# Altium footprint library MR26.PCBLIB: 50 footprints (part 3 of 4)
Each footprint in its own frame and in the unit in brackets; x right, y up, seen from the top. Pads: shape width x height; smd on the part's side, far side on the other; paste and mask are expansions set on the pad; w line width, h text height; cw(c..) or ccw(c..) is an arc to the next point about the centre after c.
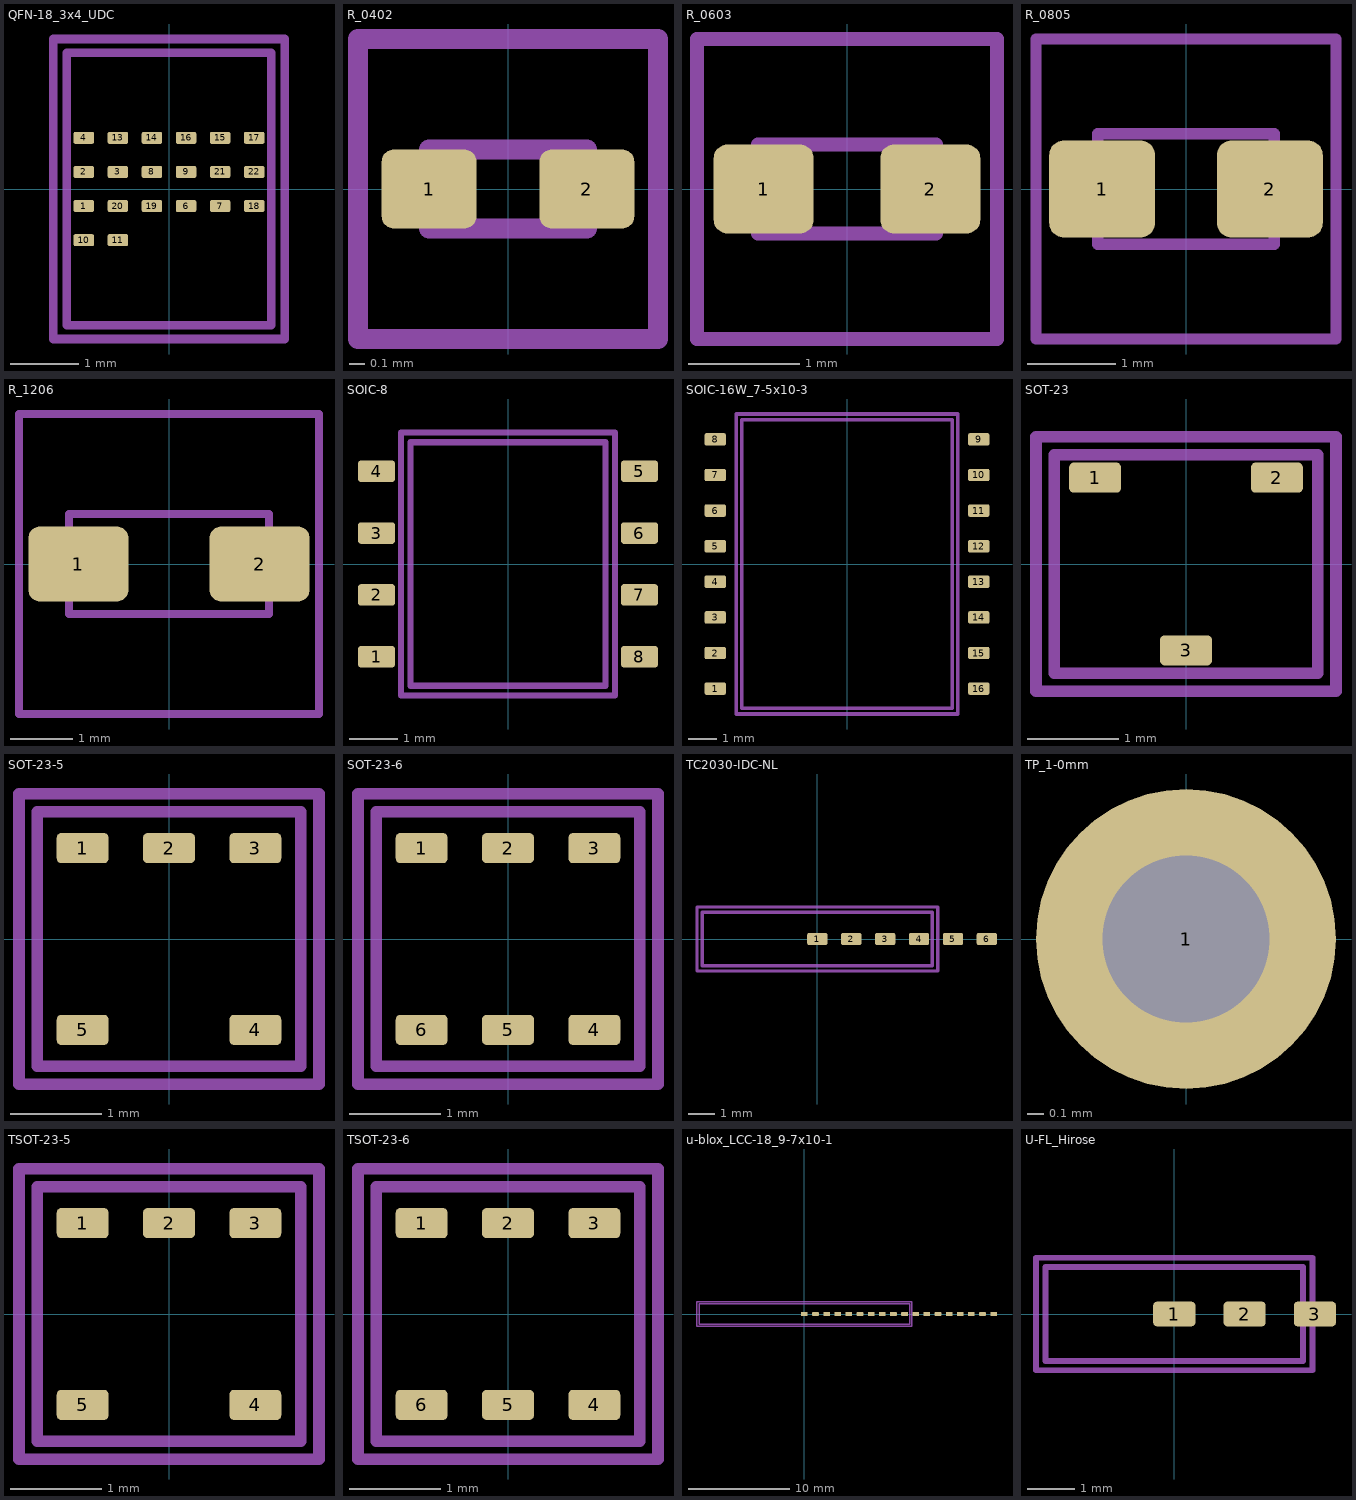
[diagram p2: the footprints below, top view; thin cyan lines are the x and y axes]

## QFN-18_3x4_UDC [mm]
pads (20):
  rrect30% 0.3x0.175 smd: 1(-1.25,-0.25) 2(-1.25,0.25) 3(-0.75,0.25) 4(-1.25,0.75) 6(0.25,-0.25) 7(0.75,-0.25) 8(-0.25,0.25) 9(0.25,0.25) 10(-1.25,-0.75) 11(-0.75,-0.75) 13(-0.75,0.75) 14(-0.25,0.75) 15(0.75,0.75) 16(0.25,0.75) 17(1.25,0.75) 18(1.25,-0.25) 19(-0.25,-0.25) 20(-0.75,-0.25) 21(0.75,0.25) 22(1.25,0.25)
tDocu:
  lines w0.127: -1.7,-2.2 1.7,-2.2 1.7,2.2 -1.7,2.2 -1.7,-2.2 ; -1.5,-2 1.5,-2 1.5,2 -1.5,2 -1.5,-2

## R_0402 [mm]
pads (2):
  rrect30% 0.6x0.5 smd: 1(-0.5,0) 2(0.5,0)
tDocu:
  lines w0.127: -0.95,-0.95 0.95,-0.95 0.95,0.95 -0.95,0.95 -0.95,-0.95 ; -0.5,-0.25 0.5,-0.25 0.5,0.25 -0.5,0.25 -0.5,-0.25

## R_0603 [mil]
pads (2):
  rrect30% 35.43x31.5 smd: 1(-29.53,0) 2(29.53,0)
tDocu:
  lines w5: -53.15,-53.15 53.15,-53.15 53.15,53.15 -53.15,53.15 -53.15,-53.15 ; -31.5,-15.75 31.5,-15.75 31.5,15.75 -31.5,15.75 -31.5,-15.75

## R_0805 [mm]
pads (2):
  rrect30% 1.2x1.1 smd: 1(-0.95,0) 2(0.95,0)
tDocu:
  lines w0.127: -1.7,-1.7 1.7,-1.7 1.7,1.7 -1.7,1.7 -1.7,-1.7 ; -1,-0.625 1,-0.625 1,0.625 -1,0.625 -1,-0.625

## R_1206 [mm]
pads (2):
  rrect30% 1.6x1.2 smd: 1(-1.45,0) 2(1.45,0)
tDocu:
  lines w0.127: -2.4,-2.4 2.4,-2.4 2.4,2.4 -2.4,2.4 -2.4,-2.4 ; -1.6,-0.8 1.6,-0.8 1.6,0.8 -1.6,0.8 -1.6,-0.8

## SOIC-8 [mil]
pads (8):
  rrect30% 30x17.48 smd: 1(-106.3,-75) 2(-106.3,-25) 3(-106.3,25) 4(-106.3,75) 5(106.3,75) 6(106.3,25) 7(106.3,-25) 8(106.3,-75)
tDocu:
  lines w5: -86.61,-106.3 86.61,-106.3 86.61,106.3 -86.61,106.3 -86.61,-106.3 ; -78.74,-98.43 78.74,-98.43 78.74,98.43 -78.74,98.43 -78.74,-98.43

## SOIC-16W_7-5x10-3 [mm]
pads (16):
  rrect30% 0.762x0.444 smd: 1(-4.7,-4.445) 2(-4.7,-3.175) 3(-4.7,-1.905) 4(-4.7,-0.635) 5(-4.7,0.635) 6(-4.7,1.905) 7(-4.7,3.175) 8(-4.7,4.445) 9(4.7,4.445) 10(4.7,3.175) 11(4.7,1.905) 12(4.7,0.635) 13(4.7,-0.635) 14(4.7,-1.905) 15(4.7,-3.175) 16(4.7,-4.445)
tDocu:
  lines w0.127: -3.95,-5.35 3.95,-5.35 3.95,5.35 -3.95,5.35 -3.95,-5.35 ; -3.75,-5.15 3.75,-5.15 3.75,5.15 -3.75,5.15 -3.75,-5.15

## SOT-23 [mm]
pads (3):
  rrect30% 0.57x0.332 smd: 1(-1,0.95) 2(1,0.95) 3(0,-0.95)
tDocu:
  lines w0.127: -1.65,-1.4 1.65,-1.4 1.65,1.4 -1.65,1.4 -1.65,-1.4 ; -1.45,-1.2 1.45,-1.2 1.45,1.2 -1.45,1.2 -1.45,-1.2

## SOT-23-5 [mm]
pads (5):
  rrect30% 0.57x0.332 smd: 1(-0.95,1) 2(0,1) 3(0.95,1) 4(0.95,-1) 5(-0.95,-1)
tDocu:
  lines w0.127: -1.65,-1.6 1.65,-1.6 1.65,1.6 -1.65,1.6 -1.65,-1.6 ; -1.45,-1.4 1.45,-1.4 1.45,1.4 -1.45,1.4 -1.45,-1.4

## SOT-23-6 [mm]
pads (6):
  rrect30% 0.57x0.332 smd: 1(-0.95,1) 2(0,1) 3(0.95,1) 4(0.95,-1) 5(0,-1) 6(-0.95,-1)
tDocu:
  lines w0.127: -1.65,-1.6 1.65,-1.6 1.65,1.6 -1.65,1.6 -1.65,-1.6 ; -1.45,-1.4 1.45,-1.4 1.45,1.4 -1.45,1.4 -1.45,-1.4

## TC2030-IDC-NL [mil]
pads (6):
  rrect30% 30x17.48 smd: 1(0,0) 2(50,0) 3(100,0) 4(150,0) 5(200,0) 6(250,0)
tDocu:
  lines w5: -177.56,-47.24 177.56,-47.24 177.56,47.24 -177.56,47.24 -177.56,-47.24 ; -169.69,-39.37 169.69,-39.37 169.69,39.37 -169.69,39.37 -169.69,-39.37

## TP_1-0mm [mm]
pads (1):
  round 1.8 hole 1: 1(0,0)

## TSOT-23-5 [mm]
pads (5):
  rrect30% 0.57x0.332 smd: 1(-0.95,1) 2(0,1) 3(0.95,1) 4(0.95,-1) 5(-0.95,-1)
tDocu:
  lines w0.127: -1.65,-1.6 1.65,-1.6 1.65,1.6 -1.65,1.6 -1.65,-1.6 ; -1.45,-1.4 1.45,-1.4 1.45,1.4 -1.45,1.4 -1.45,-1.4

## TSOT-23-6 [mm]
pads (6):
  rrect30% 0.57x0.332 smd: 1(-0.95,1) 2(0,1) 3(0.95,1) 4(0.95,-1) 5(0,-1) 6(-0.95,-1)
tDocu:
  lines w0.127: -1.65,-1.6 1.65,-1.6 1.65,1.6 -1.65,1.6 -1.65,-1.6 ; -1.45,-1.4 1.45,-1.4 1.45,1.4 -1.45,1.4 -1.45,-1.4

## u-blox_LCC-18_9-7x10-1 [mm]
pads (18):
  rrect30% 0.66x0.385 smd: 1(16.5,0) 2(5.5,0) 3(4.4,0) 4(6.6,0) 5(7.7,0) 6(2.2,0) 7(1.1,0) 8(0,0) 9(8.8,0) 10(17.6,0) 11(13.2,0) 12(18.7,0) 13(14.3,0) 14(15.4,0) 15(3.3,0) 16(11,0) 17(12.1,0) 18(9.9,0)
tDocu:
  lines w0.127: -10.6,-1.2 10.6,-1.2 10.6,1.2 -10.6,1.2 -10.6,-1.2 ; -10.4,-1 10.4,-1 10.4,1 -10.4,1 -10.4,-1

## U-FL_Hirose [mm]
pads (3):
  rrect30% 0.9x0.525 smd: 1(0,0) 2(1.5,0) 3(3,0)
tDocu:
  lines w0.127: -2.95,-1.2 2.95,-1.2 2.95,1.2 -2.95,1.2 -2.95,-1.2 ; -2.75,-1 2.75,-1 2.75,1 -2.75,1 -2.75,-1